# Altium footprint library TRANSISTOR.PcbLib: 6 footprints
Each footprint in its own frame and in the unit in brackets; x right, y up, seen from the top. Pads: shape width x height; smd on the part's side, far side on the other; paste and mask are expansions set on the pad; w line width, h text height; cw(c..) or ccw(c..) is an arc to the next point about the centre after c.
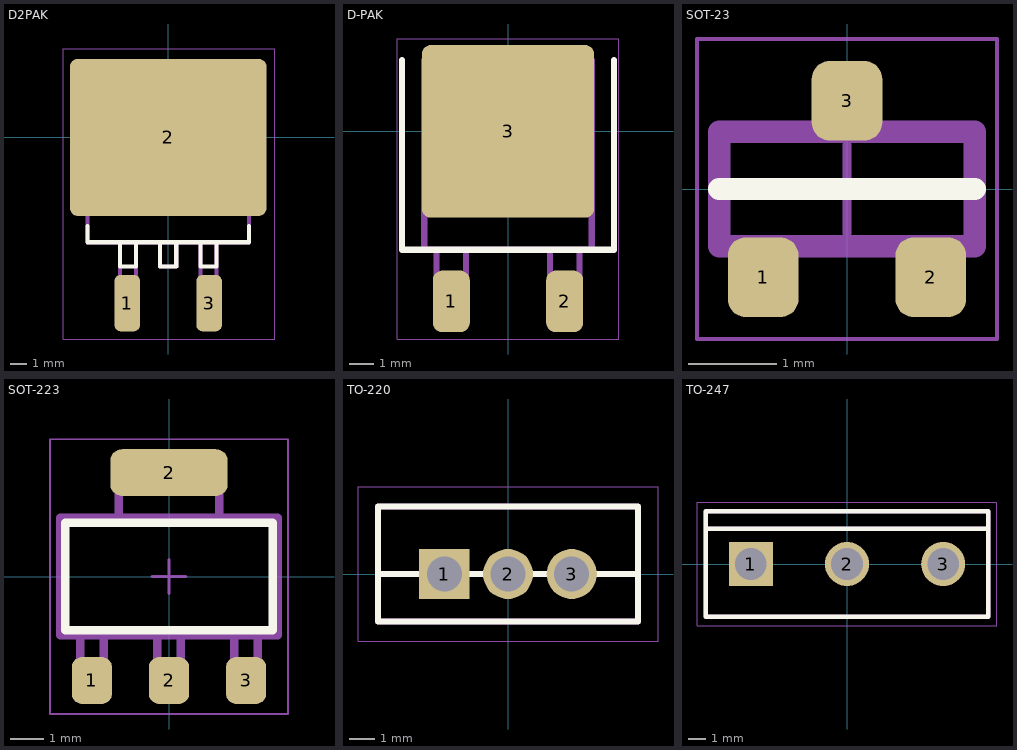
[diagram p0: the footprints below, top view; thin cyan lines are the x and y axes]

## D2PAK [mm]
height 4.57
pads (3):
  rrect50% 1.6x3.5 smd: 1(-2.54,-10.275) 3(2.54,-10.275)
  rrect10% 12.2x9.75 smd: 2(0,0)
Top Overlay:
  lines w0.254: -5,-5.5 -5,-6.5 5,-6.5 5,-5.5 ; -3,-6.5 -3,-8 -2,-8 -2,-6.5 ; -0.5,-6.5 -0.5,-8 0.5,-8 0.5,-6.5 ; 2,-6.5 2,-8 3,-8 3,-6.5
Top Assy:
  lines w0.254: -3,-6.5 -3,-11.5 -2,-11.5 -2,-6.5 ; -0.5,-6.5 -0.5,-8 0.5,-8 0.5,-6.5 ; 2,-6.5 2,-11.5 3,-11.5 3,-6.5 ; -5,2.5 -3.5,4 3.5,4 5,2.5 ; -5,2.5 5,2.5 ; -5,2.5 -5,-6.5 5,-6.5 5,2.5
Mechanical 13:
  lines w0.1: -5,-6.5 -5,2.5 -3.5,4 3.5,4 5,2.5 5,-6.5 -5,-6.5
Mechanical 15:
  lines w0.05: -6.5,-12.5 -6.5,5.5 6.6,5.5 6.6,-12.5 -6.5,-12.5
  lines w0.1: -0.5,0 0.5,0 ; 0,-0.5 0,0.5
3D body: height 4.57, standoff 0, extent -5,-6.5 5,4

## D-PAK [mm]
pads (3):
  rrect50% 1.5x2.5 smd: 1(-2.3,-6.9) 2(2.3,-6.9)
  rrect10% 7x7 smd: 3(0,0)
Top Overlay:
  lines w0.254: -4.3,2.9 -4.3,-4.8 4.3,-4.8 4.3,2.9
Top Assy:
  lines w0.254: -2.9,-4.8 -2.9,-7.5 -1.7,-7.5 -1.7,-4.8 ; 1.7,-4.8 1.7,-7.5 2.9,-7.5 2.9,-4.8 ; -3.4,-4.8 -3.4,2.9 3.4,2.9 3.4,-4.8 -3.4,-4.8
Mechanical 13:
  lines w0.1: -3.4,-4.8 -3.4,2.9 3.4,2.9 3.4,-4.8 -3.4,-4.8
Mechanical 15:
  lines w0.05: -4.5,-8.425 -4.5,3.75 4.5,3.75 4.5,-8.425 -4.5,-8.425
3D body "User Library-D-PAK.STEP": height 2.3, standoff 0, extent -3.347,-7.05 3.147,2.45

## SOT-23 [mm]
height 1.1
pads (3):
  rrect50% 0.8x0.9 smd: 1(-0.95,-1) 2(0.95,-1) 3(0,1)
Top Overlay:
  lines w0.254: -1.45,0 1.45,0
Top Assy:
  lines w0.254: -1.2,-0.65 -1.2,-1.2 -0.7,-1.2 -0.7,-0.65 ; -0.25,0.65 -0.25,1.2 0.25,1.2 0.25,0.65 ; 0.7,-0.65 0.7,-1.2 1.2,-1.2 1.2,-0.65 ; -1.45,-0.65 1.45,-0.65 1.45,0.65 -1.45,0.65 -1.45,-0.65
Mechanical 13:
  lines w0.1: -1.5,-0.6 -1.5,0.6 1.5,0.6 1.5,-0.6 -1.5,-0.6
Mechanical 15:
  lines w0.05: -1.7,-1.7 -1.7,1.7 1.7,1.7 1.7,-1.7 -1.7,-1.7
  lines w0.1: -0.5,0 0.5,0 ; 0,-0.5 0,0.5
3D body "CircuitWorks-SOT-23.step": height 1.1, standoff 0, extent -1.45,-1.175 1.55,1.325

## SOT-223 [mm]
height 1.8
pads (4):
  rrect50% 1.2x1.4 smd: 1(-2.3,-3.1) 2(0,-3.1) 3(2.3,-3.1)
  rrect50% 3.5x1.4 smd: 2(0,3.1)
Top Overlay:
  lines w0.254: -3.1,-1.6 3.1,-1.6 3.1,1.6 -3.1,1.6 -3.1,-1.6
Top Assy:
  lines w0.254: -2.65,-1.75 -2.65,-3.5 -1.95,-3.5 -1.95,-1.75 ; -1.5,1.75 -1.5,3.5 1.5,3.5 1.5,1.75 ; -0.35,-1.75 -0.35,-3.5 0.35,-3.5 0.35,-1.75 ; 1.95,-1.75 1.95,-3.5 2.65,-3.5 2.65,-1.75 ; -3.25,-1.75 3.25,-1.75 3.25,1.75 -3.25,1.75 -3.25,-1.75
Mechanical 13:
  lines w0.1: -3.3,-1.8 -3.3,1.8 3.3,1.8 3.3,-1.8 -3.3,-1.8
Mechanical 15:
  lines w0.05: -3.55,-4.1 -3.55,4.1 3.55,4.1 3.55,-4.1 -3.55,-4.1
  lines w0.1: -0.5,0 0.5,0 ; 0,-0.5 0,0.5
3D body: height 1.8, standoff 0, extent -3.3,-1.8 3.3,1.8

## TO-220 [mm]
height 20
pads (3):
  rect 2x2 hole 1.4: 1(-2.55,0)
  round 2 hole 1.4: 2(0,0) 3(2.55,0)
Top Overlay:
  lines w0.254: -5.2,0 5.2,0 ; -5.2,-1.9 -5.2,2.7 5.2,2.7 5.2,-1.9 -5.2,-1.9
Top Assy:
  lines w0.254: -5.2,0 5.2,0 ; -5.2,-1.9 5.2,-1.9 5.2,2.7 -5.2,2.7 -5.2,-1.9
Mechanical 13:
  lines w0.1: -5.2,-1.9 -5.2,2.7 5.2,2.7 5.2,-1.9 -5.2,-1.9
Mechanical 15:
  lines w0.05: -6,-2.7 -6,3.5 -4.25,3.5 4.25,3.5 6,3.5 6,-2.7 -6,-2.7
  lines w0.1: -0.5,0 0.5,0 ; 0,-0.5 0,0.5
3D body: height 12.9, standoff 2.9, extent -5.2,-1.9 5.2,2.7
3D body: height 20, standoff 2.9, extent -5.2,0 5.2,2.7

## TO-247 [mm]
height 24.45
pads (3):
  rect 2.5x2.5 hole 1.8: 1(-5.45,0)
  round 2.5 hole 1.8: 2(0,0) 3(5.45,0)
Top Overlay:
  lines w0.254: 8,2 -8,2 -8,3 ; -8,3 -8,-3 8,-3 8,3 -8,3
Top Assy:
  lines w0.254: -8,2 8,2 ; -8,-3 8,-3 8,3 -8,3 -8,-3
Mechanical 13:
  lines w0.1: -8,-3 -8,3 8,3 8,-3 -8,-3
Mechanical 15:
  lines w0.05: -8.5,-3.5 -8.5,3.5 8.5,3.5 8.5,-3.5 -8.5,-3.5
  lines w0.1: -0.5,0 0.5,0 ; 0,-0.5 0,0.5
3D body: height 21.3, standoff 1.3, extent -7.9,-3 8.1,3